# Altium schematic symbol library 2021-02-08_12-51-18.SchLib: 2 symbols
Pins are listed as number, name and electrical type; pins without a type are passive.

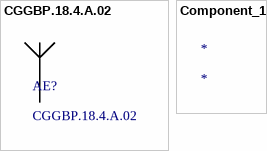
[diagram p0: symbols CGGBP.18.4.A.02 to Component_1]

## CGGBP.18.4.A.02
designator AE?
No Description Available; Built_By: EMA_Justin; Vendor: Taoglas Limited; SourceLibrary: Add_to_database_2020-12-18; Datasheet: https://www.mouser.com/datasheet/2/398/CGGBP.18.4.A.02-1218625.pdf; Copyright: Copyright (C) 2018 Accelerated Designs. All rights reserved; Manufacturer_Part_Number: CGGBP.18.4.A.02; RefDes: RefDes; Type: DEV
footprint ANT_CGGBP.18.4.A.02_TAL
pins: 1

## Component_1
designator *